# Altium footprint library 390nf.PcbLib: 1 footprints
Each footprint in its own frame and in the unit in brackets; x right, y up, seen from the top. Pads: shape width x height; smd on the part's side, far side on the other; paste and mask are expansions set on the pad; w line width, h text height; cw(c..) or ccw(c..) is an arc to the next point about the centre after c.
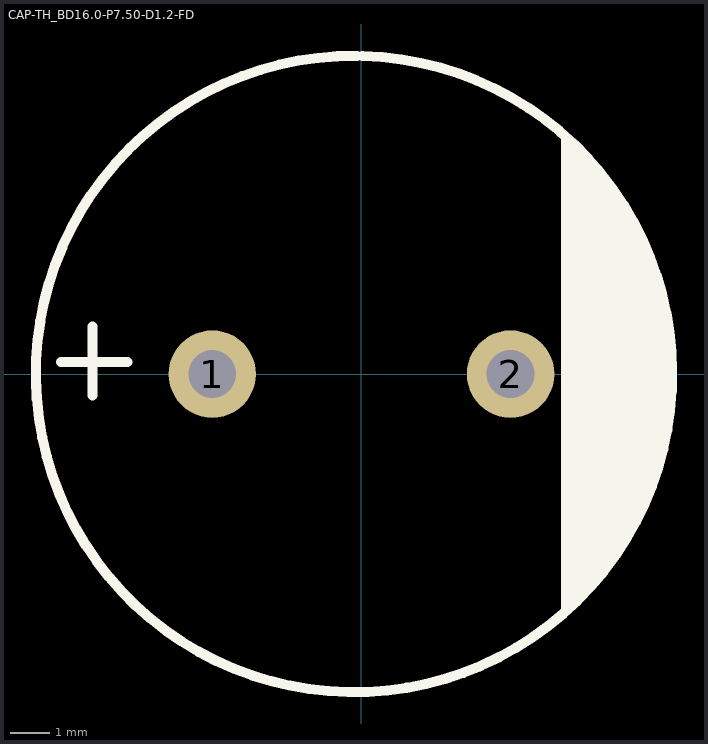
[diagram p0: the footprint, top view; thin cyan lines are the x and y axes]

## CAP-TH_BD16.0-P7.50-D1.2-FD [mm]
pads (2):
  round 2.2 hole 1.2: 1(-3.75,0) 2(3.75,0)
Top Overlay:
  region: 5.02,-6.096 5.348,-5.814 5.939,-5.182 6.459,-4.49 6.902,-3.746 7.262,-2.96 7.537,-2.139 7.721,-1.293 7.814,-0.433 7.814,0.433 7.721,1.293 7.537,2.139 7.262,2.96 6.902,3.746 6.459,4.49 5.939,5.182 5.348,5.814 5.02,6.096
  lines w0.254: -7.553,0.305 -5.877,0.305 ; -6.766,-0.533 -6.766,1.194 ; -0.111,8.001 ccw(c-0.186,0.001) 0.029,7.998